# Altium footprint library PCB1.PcbLib: 74 footprints (part 5 of 5)
Each footprint in its own frame and in the unit in brackets; x right, y up, seen from the top. Pads: shape width x height; smd on the part's side, far side on the other; paste and mask are expansions set on the pad; w line width, h text height; cw(c..) or ccw(c..) is an arc to the next point about the centre after c.
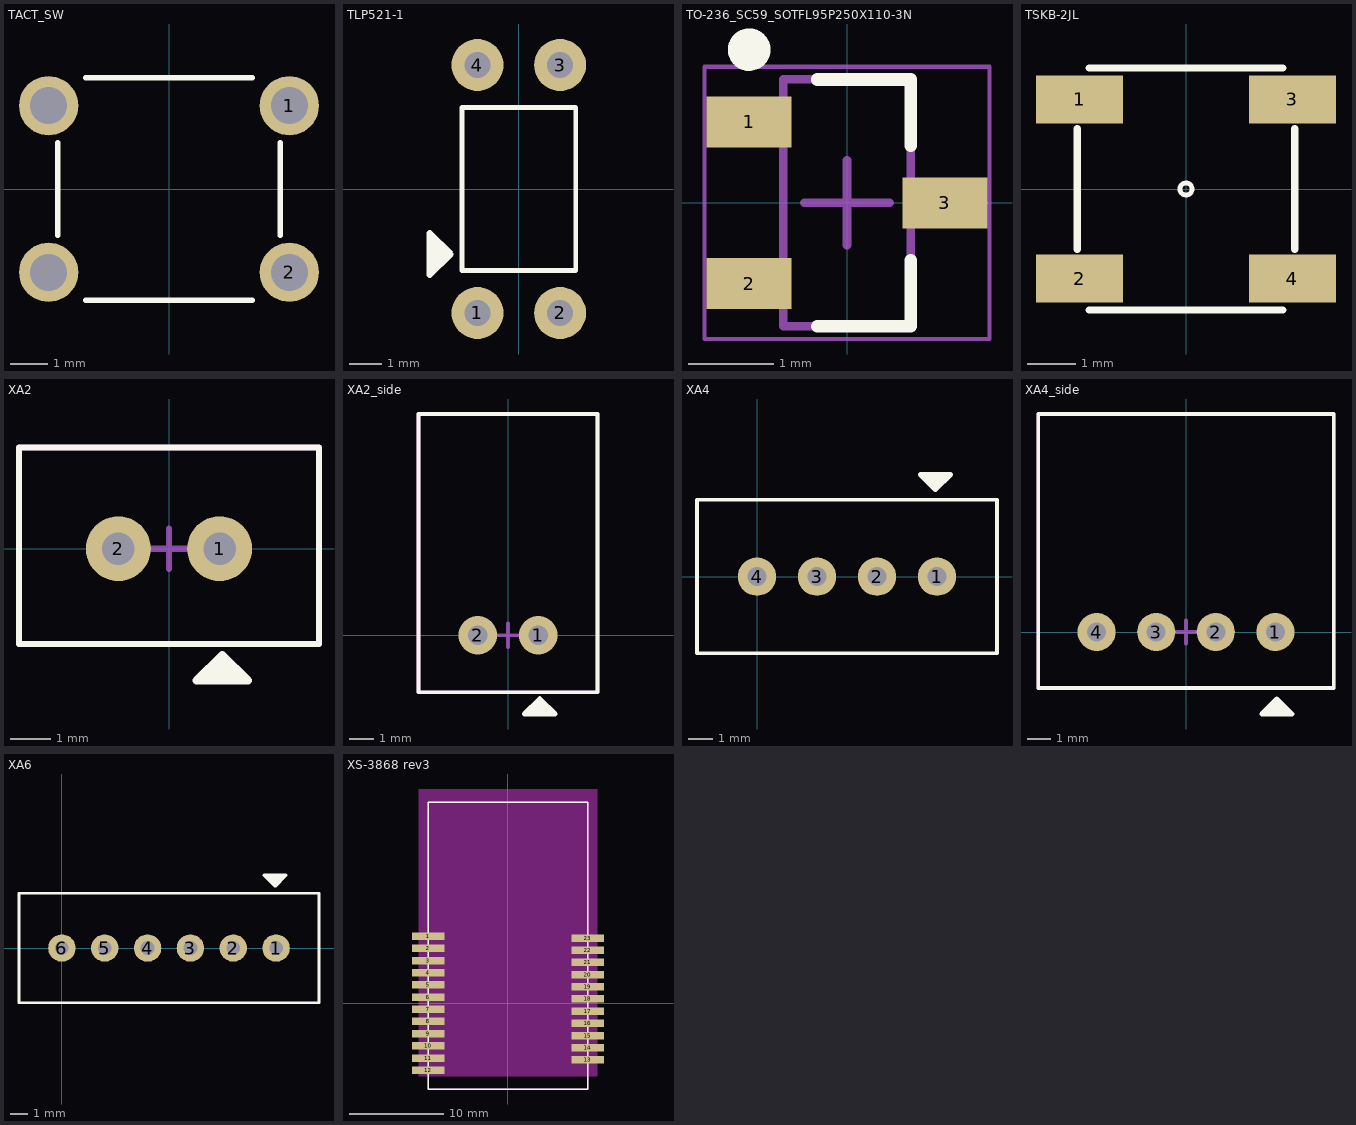
[diagram p4: the footprints below, top view; thin cyan lines are the x and y axes]

## TACT_SW [mm]
pads (4):
  round 1.6 hole 1: 1(3.25,2.25) 2(3.25,-2.25) ""(-3.25,-2.25) ""(-3.25,2.25)
Top Overlay:
  lines w0.15: -3,-1.25 -3,1.25 ; -2.25,-3 2.25,-3 ; -2.25,3 0,3 2.25,3 ; 3,-1.25 3,1.25

## TLP521-1 [mm]
pads (4):
  round 1.6 hole 0.8 paste-0.05 mask+0.1: 1(-1.27,-3.81) 2(1.27,-3.81) 3(1.27,3.81) 4(-1.27,3.81)
Top Overlay:
  lines w0.15: -1.75,-2.5 -1.75,2.5 0,2.5 1.75,2.5 1.75,-2.5 -1.75,-2.5
  lines w0.2: -2.608,-1.746 -2.608,-1.873 -2.481,-1.873 ; -2.735,-2 -2.545,-2.191 -2.354,-2 ; -2.735,-2 -2.735,-2.381 -2.354,-2 ; -2.735,-2 -2.735,-1.746 -2.735,-1.619 -2.354,-2 ; -2.735,-2 -2.1,-2 ; -2.481,-1.873 -2.481,-1.937 -2.481,-1.873 ; -2.481,-1.873 -2.354,-2 ; -2.1,-2 -2.735,-2.635 -2.735,-1.365 -2.1,-2

## TO-236_SC59_SOTFL95P250X110-3N [mm] "SOTFL, 3-Leads, Body 2.90x2.50mm, Pitch 0.95mm, IPC Medium Density"
height 1.1
pads (3):
  rect 1x0.6 smd: 1(-1.15,0.95) 2(-1.15,-0.95) 3(1.15,0)
Top Overlay:
  circle w0.25: c-1.15,1.8 r0.125
  lines w0.15: -0.35,-1.45 0.75,-1.45 0.75,-0.675 ; -0.35,1.45 0.75,1.45 0.75,0.675
Mechanical 13:
  lines w0.1: -0.75,-1.45 0.75,-1.45 0.75,1.45 -0.75,1.45 -0.75,-1.45
Mechanical 15:
  lines w0.05: -1.675,-1.6 1.675,-1.6 1.675,1.6 -1.675,1.6 -1.675,-1.6
  lines w0.1: -0.5,0 0.5,0 ; 0,-0.5 0,0.5
3D body "TO-236_SC59_SOTFL95P250X110-3N.step": height 1.1, standoff 0, extent -1.25,-1.448 1.25,1.448

## TSKB-2JL [mm] "tact switch"
pads (4):
  rect 1.8x1 smd: 1(-2.2,1.85) 2(-2.2,-1.85) 3(2.2,1.85) 4(2.2,-1.85)
Top Overlay:
  circle w0.1: c0,0 r0.125
  lines w0.15: -2.25,-1.25 -2.25,1.25 ; -2,-2.5 2,-2.5 ; -2,2.5 2,2.5 ; 2.25,-1.25 2.25,1.25

## XA2 [mm]
pads (2):
  round 1.6 hole 0.8: 1(1.25,0) 2(-1.25,0)
Top Overlay:
  lines w0.15: -3.7,-2.35 3.7,-2.35 3.7,2.5 -3.7,2.5 -3.7,-2.35
  lines w0.2: 1.06,-3.127 1.187,-3.127 1.187,-3 ; 1.187,-3 1.25,-3 1.187,-3 ; 1.187,-3 1.314,-2.873 ; 1.314,-3.254 1.504,-3.063 1.314,-2.873 ; 1.314,-3.254 1.695,-3.254 1.314,-2.873 ; 1.314,-3.254 1.06,-3.254 0.933,-3.254 1.314,-2.873 ; 1.314,-3.254 1.314,-2.619 ; 1.314,-2.619 1.949,-3.254 0.679,-3.254 1.314,-2.619
Mechanical 15:
  lines w0.15: -0.5,0 0.5,0 ; 0,-0.5 0,0.5 ; -3.7,-2.35 -3.7,2.5 3.7,2.5 3.7,-2.35 -3.7,-2.35

## XA2_side [mm]
pads (2):
  round 1.6 hole 0.8: 1(1.25,0) 2(-1.25,0)
Top Overlay:
  lines w0.15: -3.7,-2.35 3.7,-2.35 3.7,9.15 -3.7,9.15 -3.7,-2.35
  lines w0.2: 1.06,-3.127 1.187,-3.127 1.187,-3 ; 1.187,-3 1.25,-3 1.187,-3 ; 1.187,-3 1.314,-2.873 ; 1.314,-3.254 1.504,-3.063 1.314,-2.873 ; 1.314,-3.254 1.695,-3.254 1.314,-2.873 ; 1.314,-3.254 1.06,-3.254 0.933,-3.254 1.314,-2.873 ; 1.314,-3.254 1.314,-2.619 ; 1.314,-2.619 1.949,-3.254 0.679,-3.254 1.314,-2.619
Mechanical 15:
  lines w0.15: -0.5,0 0.5,0 ; 0,-0.5 0,0.5 ; -3.7,-2.35 -3.7,9.15 3.7,9.15 3.7,-2.35 -3.7,-2.35

## XA4 [mm]
pads (4):
  round 1.6 hole 0.8: 1(7.5,0) 2(5,0) 3(2.5,0) 4(0,0)
Top Overlay:
  lines w0.15: -2.5,-3.2 -2.5,3.2 10,3.2 10,-3.2 -2.5,-3.2
  lines w0.2: 7.691,4.127 7.564,4.127 7.564,4 ; 7.437,3.619 7.437,4.254 ; 7.437,3.619 6.802,4.254 8.072,4.254 7.437,3.619 ; 7.437,3.873 7.564,4 ; 7.437,3.873 7.246,4.063 7.437,4.254 ; 7.437,3.873 7.056,4.254 7.437,4.254 ; 7.437,3.873 7.818,4.254 7.691,4.254 7.437,4.254 ; 7.564,4 7.5,4 7.564,4

## XA4_side [mm]
pads (4):
  round 1.6 hole 0.8: 1(3.75,0) 2(1.25,0) 3(-1.25,0) 4(-3.75,0)
Top Overlay:
  lines w0.15: -6.2,-2.35 6.2,-2.35 6.2,9.15 -6.2,9.15 -6.2,-2.35
  lines w0.2: 3.555,-3.314 3.682,-3.314 3.682,-3.187 ; 3.682,-3.187 3.746,-3.187 3.682,-3.187 ; 3.682,-3.187 3.809,-3.06 ; 3.809,-3.441 4,-3.25 3.809,-3.06 ; 3.809,-3.441 4.19,-3.441 3.809,-3.06 ; 3.809,-3.441 3.555,-3.441 3.428,-3.441 3.809,-3.06 ; 3.809,-3.441 3.809,-2.806 ; 3.809,-2.806 4.444,-3.441 3.174,-3.441 3.809,-2.806
Mechanical 15:
  lines w0.15: -0.5,0 0.5,0 ; 0,-0.5 0,0.5 ; -6.2,-2.35 -6.2,9.15 6.2,9.15 6.2,-2.35 -6.2,-2.35

## XA6 [mm]
pads (6):
  round 1.6 hole 0.8: 1(12.5,0) 2(10,0) 3(7.5,0) 4(5,0) 5(2.5,0) 6(0,0)
Top Overlay:
  lines w0.15: -2.5,-3.2 15,-3.2 15,3.2 -2.5,3.2 -2.5,-3.2
  lines w0.2: 12.691,4.127 12.564,4.127 12.564,4 ; 12.437,3.619 13.072,4.254 11.802,4.254 12.437,3.619 ; 12.437,3.619 12.437,4.254 ; 12.437,3.873 12.818,4.254 12.691,4.254 12.437,4.254 ; 12.437,3.873 12.056,4.254 12.437,4.254 ; 12.437,3.873 12.246,4.063 12.437,4.254 ; 12.437,3.873 12.564,4 ; 12.564,4 12.5,4 12.564,4

## XS-3868 rev3 [mm] "Bluetooth 2.0, AVRCP audio"
pads (23):
  rect 3.5x0.8 smd paste-0.05 mask+0.1: 1(-8.5,7.15) 2(-8.5,5.85) 3(-8.5,4.55) 4(-8.5,3.25) 5(-8.5,1.95) 6(-8.5,0.65) 7(-8.5,-0.65) 8(-8.5,-1.95) 9(-8.5,-3.25) 10(-8.5,-4.55) 11(-8.5,-5.85) 12(-8.5,-7.15) 13(8.5,-6.05) 14(8.5,-4.75) 15(8.5,-3.45) 16(8.5,-2.15) 17(8.5,-0.85) 18(8.5,0.45) 19(8.5,1.75) 20(8.5,3.05) 21(8.5,4.35) 22(8.5,5.65) 23(8.5,6.95)
Top Overlay:
  lines w0.15: -8.5,-9.15 -8.5,21.45 8.5,21.45 8.5,-9.15 -8.5,-9.15
Keep-Out Layer:
  pour cut-out: -9.5,-7.8 9.5,-7.8 9.5,22.85 -9.5,22.85
Mechanical 15:
  lines w0.15: -8.5,-9.15 8.5,-9.15 8.5,21.45 -8.5,21.45 -8.5,-9.15